# Altium footprint library PinHeader.PcbLib: 118 footprints (part 7 of 8)
Each footprint in its own frame and in the unit in brackets; x right, y up, seen from the top. Pads: shape width x height; smd on the part's side, far side on the other; paste and mask are expansions set on the pad; w line width, h text height; cw(c..) or ccw(c..) is an arc to the next point about the centre after c.
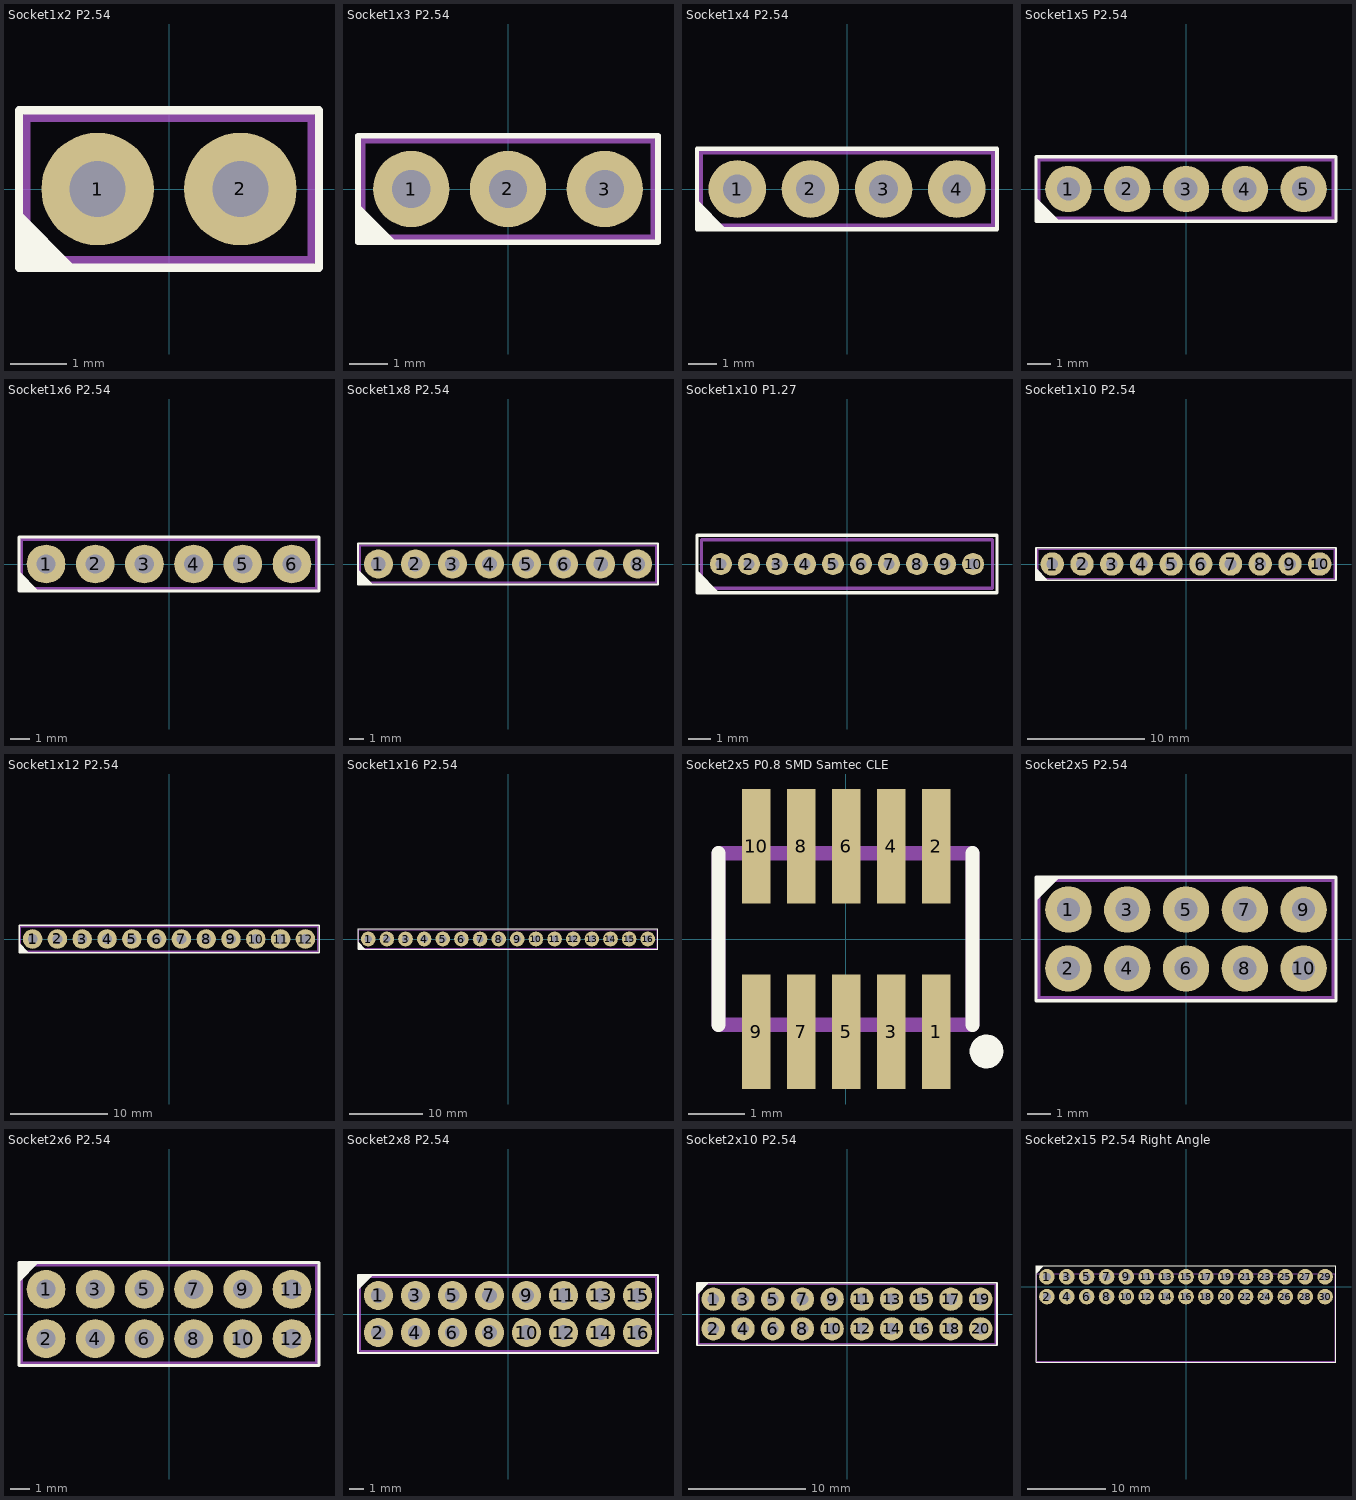
[diagram p6: the footprints below, top view; thin cyan lines are the x and y axes]

## Socket1x2 P2.54 [mm] "Receptacle connector"
height 7
pads (2):
  round 2 hole 1: 1(-1.27,0) 2(1.27,0)
Top Overlay:
  region: -2.667,-1.397 -2.667,-0.381 -1.651,-1.397
  lines w0.15: -2.667,-1.397 -2.667,1.397 2.667,1.397 2.667,-1.397 -2.667,-1.397
Mechanical 13:
  lines w0.15: -2.54,-1.27 -2.54,1.27 2.54,1.27 2.54,-1.27 -2.54,-1.27
3D body: height 0, standoff -2.5, extent 0.97,-0.3 1.57,0.3
3D body: height 0, standoff -2.5, extent -1.57,-0.3 -0.97,0.3
3D body: height 7.01, standoff 0, extent 0.52,-0.75 2.02,0.75
3D body: height 7.01, standoff 0, extent -2.02,-0.75 -0.52,0.75
3D body: height 7, standoff 0, extent -2.54,-1.27 2.54,1.27

## Socket1x3 P2.54 [mm] "Receptacle connector"
height 7
pads (3):
  round 2 hole 1: 1(-2.54,0) 2(0,0) 3(2.54,0)
Top Overlay:
  region: -3.937,-1.397 -3.937,-0.381 -2.921,-1.397
  lines w0.15: -3.937,-1.397 -3.937,1.397 3.937,1.397 3.937,-1.397 -3.937,-1.397
Mechanical 13:
  lines w0.15: -3.81,-1.27 -3.81,1.27 3.81,1.27 3.81,-1.27 -3.81,-1.27
3D body: height 0, standoff -2.5, extent 2.24,-0.3 2.84,0.3
3D body: height 0, standoff -2.5, extent -0.3,-0.3 0.3,0.3
3D body: height 0, standoff -2.5, extent -2.84,-0.3 -2.24,0.3
3D body: height 7.01, standoff 0, extent 1.79,-0.75 3.29,0.75
3D body: height 7.01, standoff 0, extent -0.75,-0.75 0.75,0.75
3D body: height 7.01, standoff 0, extent -3.29,-0.75 -1.79,0.75
3D body: height 7, standoff 0, extent -3.81,-1.27 3.81,1.27

## Socket1x4 P2.54 [mm] "Receptacle connector"
height 7
pads (4):
  round 2 hole 1: 1(-3.81,0) 2(-1.27,0) 3(1.27,0) 4(3.81,0)
Top Overlay:
  region: -5.207,-1.397 -5.207,-0.381 -4.191,-1.397
  lines w0.15: -5.207,-1.397 5.207,-1.397 5.207,1.397 -5.207,1.397 -5.207,-1.397
Mechanical 13:
  lines w0.15: -5.08,-1.27 5.08,-1.27 5.08,1.27 -5.08,1.27 -5.08,-1.27
3D body: height 7, standoff 0, extent -5.08,-1.27 5.08,1.27
3D body: height 7.01, standoff 0, extent -4.56,-0.75 -3.06,0.75
3D body: height 7.01, standoff 0, extent -2.02,-0.75 -0.52,0.75
3D body: height 7.01, standoff 0, extent 0.52,-0.75 2.02,0.75
3D body: height 7.01, standoff 0, extent 3.06,-0.75 4.56,0.75
3D body: height 0, standoff -2.5, extent -4.11,-0.3 -3.51,0.3
3D body: height 0, standoff -2.5, extent -1.57,-0.3 -0.97,0.3
3D body: height 0, standoff -2.5, extent 0.97,-0.3 1.57,0.3
3D body: height 0, standoff -2.5, extent 3.51,-0.3 4.11,0.3

## Socket1x5 P2.54 [mm] "Receptacle connector"
height 7
pads (5):
  round 2 hole 1: 1(-5.08,0) 2(-2.54,0) 3(0,0) 4(2.54,0) 5(5.08,0)
Top Overlay:
  region: -6.477,-1.397 -6.477,-0.381 -5.461,-1.397
  lines w0.15: -6.477,-1.397 -6.477,1.397 6.477,1.397 6.477,-1.397 -6.477,-1.397
Mechanical 13:
  lines w0.15: -6.35,-1.27 -6.35,1.27 6.35,1.27 6.35,-1.27 -6.35,-1.27
3D body: height 0, standoff -2.5, extent 4.78,-0.3 5.38,0.3
3D body: height 0, standoff -2.5, extent 2.24,-0.3 2.84,0.3
3D body: height 0, standoff -2.5, extent -0.3,-0.3 0.3,0.3
3D body: height 0, standoff -2.5, extent -2.84,-0.3 -2.24,0.3
3D body: height 0, standoff -2.5, extent -5.38,-0.3 -4.78,0.3
3D body: height 7.01, standoff 0, extent 4.33,-0.75 5.83,0.75
3D body: height 7.01, standoff 0, extent 1.79,-0.75 3.29,0.75
3D body: height 7.01, standoff 0, extent -0.75,-0.75 0.75,0.75
3D body: height 7.01, standoff 0, extent -3.29,-0.75 -1.79,0.75
3D body: height 7.01, standoff 0, extent -5.83,-0.75 -4.33,0.75
3D body: height 7, standoff 0, extent -6.35,-1.27 6.35,1.27

## Socket1x6 P2.54 [mm] "Receptacle connector"
height 7
pads (6):
  round 2 hole 1: 1(-6.35,0) 2(-3.81,0) 3(-1.27,0) 4(1.27,0) 5(3.81,0) 6(6.35,0)
Top Overlay:
  region: -7.747,-1.397 -7.747,-0.381 -6.731,-1.397
  lines w0.15: -7.747,-1.397 -7.747,1.397 7.747,1.397 7.747,-1.397 -7.747,-1.397
Mechanical 13:
  lines w0.15: -7.62,-1.27 -7.62,1.27 7.62,1.27 7.62,-1.27 -7.62,-1.27
3D body: height 0, standoff -2.5, extent 6.05,-0.3 6.65,0.3
3D body: height 0, standoff -2.5, extent 3.51,-0.3 4.11,0.3
3D body: height 0, standoff -2.5, extent 0.97,-0.3 1.57,0.3
3D body: height 0, standoff -2.5, extent -1.57,-0.3 -0.97,0.3
3D body: height 0, standoff -2.5, extent -4.11,-0.3 -3.51,0.3
3D body: height 0, standoff -2.5, extent -6.65,-0.3 -6.05,0.3
3D body: height 7.01, standoff 0, extent 5.6,-0.75 7.1,0.75
3D body: height 7.01, standoff 0, extent 3.06,-0.75 4.56,0.75
3D body: height 7.01, standoff 0, extent 0.52,-0.75 2.02,0.75
3D body: height 7.01, standoff 0, extent -2.02,-0.75 -0.52,0.75
3D body: height 7.01, standoff 0, extent -4.56,-0.75 -3.06,0.75
3D body: height 7.01, standoff 0, extent -7.1,-0.75 -5.6,0.75
3D body: height 7, standoff 0, extent -7.62,-1.27 7.62,1.27

## Socket1x8 P2.54 [mm] "Receptacle connector"
height 7
pads (8):
  round 2 hole 1: 1(-8.89,0) 2(-6.35,0) 3(-3.81,0) 4(-1.27,0) 5(1.27,0) 6(3.81,0) 7(6.35,0) 8(8.89,0)
Top Overlay:
  region: -10.287,-1.397 -10.287,-0.381 -9.271,-1.397
  lines w0.15: -10.287,-1.397 -10.287,1.397 10.287,1.397 10.287,-1.397 -10.287,-1.397
Mechanical 13:
  lines w0.15: -10.16,-1.27 -10.16,1.27 10.16,1.27 10.16,-1.27 -10.16,-1.27
3D body: height 0, standoff -2.5, extent 8.59,-0.3 9.19,0.3
3D body: height 0, standoff -2.5, extent 6.05,-0.3 6.65,0.3
3D body: height 0, standoff -2.5, extent 3.51,-0.3 4.11,0.3
3D body: height 0, standoff -2.5, extent 0.97,-0.3 1.57,0.3
3D body: height 0, standoff -2.5, extent -1.57,-0.3 -0.97,0.3
3D body: height 0, standoff -2.5, extent -4.11,-0.3 -3.51,0.3
3D body: height 0, standoff -2.5, extent -6.65,-0.3 -6.05,0.3
3D body: height 0, standoff -2.5, extent -9.19,-0.3 -8.59,0.3
3D body: height 7.01, standoff 0, extent 8.14,-0.75 9.64,0.75
3D body: height 7.01, standoff 0, extent 5.6,-0.75 7.1,0.75
3D body: height 7.01, standoff 0, extent 3.06,-0.75 4.56,0.75
3D body: height 7.01, standoff 0, extent 0.52,-0.75 2.02,0.75
3D body: height 7.01, standoff 0, extent -2.02,-0.75 -0.52,0.75
3D body: height 7.01, standoff 0, extent -4.56,-0.75 -3.06,0.75
3D body: height 7.01, standoff 0, extent -7.1,-0.75 -5.6,0.75
3D body: height 7.01, standoff 0, extent -9.64,-0.75 -8.14,0.75
3D body: height 7, standoff 0, extent -10.16,-1.27 10.16,1.27

## Socket1x10 P1.27 [mm] "Receptacle connector"
height 4.1
pads (10):
  round 1 hole 0.5: 1(-5.715,0) 2(-4.445,0) 3(-3.175,0) 4(-1.905,0) 5(-0.635,0) 6(0.635,0) 7(1.905,0) 8(3.175,0) 9(4.445,0) 10(5.715,0)
Top Overlay:
  region: -6.8,-1.3 -6.8,-0.284 -5.784,-1.3
  lines w0.15: -6.8,-1.3 -6.8,1.3 6.8,1.3 6.8,-1.3 -6.8,-1.3
Mechanical 13:
  lines w0.15: -6.6,-1.1 6.6,-1.1 6.6,1.1 -6.6,1.1 -6.6,-1.1
3D body "pcb_connector_851-87-010-10-001101.stp": height 4.1, standoff -2.3, extent -6.555,-1.1 6.555,1.1

## Socket1x10 P2.54 [mm] "Receptacle connector"
height 7
pads (10):
  round 2 hole 1: 1(-11.43,0) 2(-8.89,0) 3(-6.35,0) 4(-3.81,0) 5(-1.27,0) 6(1.27,0) 7(3.81,0) 8(6.35,0) 9(8.89,0) 10(11.43,0)
Top Overlay:
  region: -12.827,-1.397 -12.827,-0.381 -11.811,-1.397
  lines w0.15: -12.827,-1.397 12.827,-1.397 12.827,1.397 -12.827,1.397 -12.827,-1.397
Mechanical 13:
  lines w0.15: -12.7,-1.27 12.7,-1.27 12.7,1.27 -12.7,1.27 -12.7,-1.27
3D body: height 7, standoff 0, extent -12.7,-1.27 12.7,1.27
3D body: height 7.01, standoff 0, extent -12.18,-0.75 -10.68,0.75
3D body: height 7.01, standoff 0, extent -9.64,-0.75 -8.14,0.75
3D body: height 7.01, standoff 0, extent -7.1,-0.75 -5.6,0.75
3D body: height 7.01, standoff 0, extent -4.56,-0.75 -3.06,0.75
3D body: height 7.01, standoff 0, extent -2.02,-0.75 -0.52,0.75
3D body: height 7.01, standoff 0, extent 0.52,-0.75 2.02,0.75
3D body: height 7.01, standoff 0, extent 3.06,-0.75 4.56,0.75
3D body: height 7.01, standoff 0, extent 5.6,-0.75 7.1,0.75
3D body: height 7.01, standoff 0, extent 8.14,-0.75 9.64,0.75
3D body: height 7.01, standoff 0, extent 10.68,-0.75 12.18,0.75
3D body: height 0, standoff -2.5, extent -11.73,-0.3 -11.13,0.3
3D body: height 0, standoff -2.5, extent -9.19,-0.3 -8.59,0.3
3D body: height 0, standoff -2.5, extent -6.65,-0.3 -6.05,0.3
3D body: height 0, standoff -2.5, extent -4.11,-0.3 -3.51,0.3
3D body: height 0, standoff -2.5, extent -1.57,-0.3 -0.97,0.3
3D body: height 0, standoff -2.5, extent 0.97,-0.3 1.57,0.3
3D body: height 0, standoff -2.5, extent 3.51,-0.3 4.11,0.3
3D body: height 0, standoff -2.5, extent 6.05,-0.3 6.65,0.3
3D body: height 0, standoff -2.5, extent 8.59,-0.3 9.19,0.3
3D body: height 0, standoff -2.5, extent 11.13,-0.3 11.73,0.3

## Socket1x12 P2.54 [mm] "Receptacle connector"
height 7
pads (12):
  round 2 hole 1: 1(-13.97,0) 2(-11.43,0) 3(-8.89,0) 4(-6.35,0) 5(-3.81,0) 6(-1.27,0) 7(1.27,0) 8(3.81,0) 9(6.35,0) 10(8.89,0) 11(11.43,0) 12(13.97,0)
Top Overlay:
  region: -15.367,-1.397 -15.367,-0.381 -14.351,-1.397
  lines w0.15: -15.367,-1.397 -15.367,1.397 15.367,1.397 15.367,-1.397 -15.367,-1.397
Mechanical 13:
  lines w0.15: -15.24,-1.27 -15.24,1.27 15.24,1.27 15.24,-1.27 -15.24,-1.27
3D body: height 0, standoff -2.5, extent 8.59,-0.3 9.19,0.3
3D body: height 0, standoff -2.5, extent 6.05,-0.3 6.65,0.3
3D body: height 0, standoff -2.5, extent 3.51,-0.3 4.11,0.3
3D body: height 0, standoff -2.5, extent 0.97,-0.3 1.57,0.3
3D body: height 0, standoff -2.5, extent -1.57,-0.3 -0.97,0.3
3D body: height 0, standoff -2.5, extent -4.11,-0.3 -3.51,0.3
3D body: height 0, standoff -2.5, extent -6.65,-0.3 -6.05,0.3
3D body: height 0, standoff -2.5, extent -9.19,-0.3 -8.59,0.3
3D body: height 0, standoff -2.5, extent -11.73,-0.3 -11.13,0.3
3D body: height 0, standoff -2.5, extent -14.27,-0.3 -13.67,0.3
3D body: height 7.01, standoff 0, extent 8.14,-0.75 9.64,0.75
3D body: height 7.01, standoff 0, extent 5.6,-0.75 7.1,0.75
3D body: height 7.01, standoff 0, extent 3.06,-0.75 4.56,0.75
3D body: height 7.01, standoff 0, extent 0.52,-0.75 2.02,0.75
3D body: height 7.01, standoff 0, extent -2.02,-0.75 -0.52,0.75
3D body: height 7.01, standoff 0, extent -4.56,-0.75 -3.06,0.75
3D body: height 7.01, standoff 0, extent -7.1,-0.75 -5.6,0.75
3D body: height 7.01, standoff 0, extent -9.64,-0.75 -8.14,0.75
3D body: height 7.01, standoff 0, extent -12.18,-0.75 -10.68,0.75
3D body: height 7.01, standoff 0, extent -14.72,-0.75 -13.22,0.75
3D body: height 7, standoff 0, extent -15.24,-1.27 15.24,1.27
3D body: height 7.01, standoff 0, extent 10.68,-0.75 12.18,0.75
3D body: height 0, standoff -2.5, extent 11.13,-0.3 11.73,0.3
3D body: height 7.01, standoff 0, extent 13.22,-0.75 14.72,0.75
3D body: height 0, standoff -2.5, extent 13.67,-0.3 14.27,0.3

## Socket1x16 P2.54 [mm] "Receptacle connector"
height 7
pads (16):
  round 2 hole 1: 1(-19.05,0) 2(-16.51,0) 3(-13.97,0) 4(-11.43,0) 5(-8.89,0) 6(-6.35,0) 7(-3.81,0) 8(-1.27,0) 9(1.27,0) 10(3.81,0) 11(6.35,0) 12(8.89,0) 13(11.43,0) 14(13.97,0) 15(16.51,0) 16(19.05,0)
Top Overlay:
  region: -20.447,-1.397 -20.447,-0.381 -19.431,-1.397
  lines w0.15: -20.447,-1.397 -20.447,1.397 20.447,1.397 20.447,-1.397 -20.447,-1.397
Mechanical 13:
  lines w0.15: -20.32,-1.27 -20.32,1.27 20.32,1.27 20.32,-1.27 -20.32,-1.27
3D body: height 0, standoff -2.5, extent 3.51,-0.3 4.11,0.3
3D body: height 0, standoff -2.5, extent 0.97,-0.3 1.57,0.3
3D body: height 0, standoff -2.5, extent -1.57,-0.3 -0.97,0.3
3D body: height 0, standoff -2.5, extent -4.11,-0.3 -3.51,0.3
3D body: height 0, standoff -2.5, extent -6.65,-0.3 -6.05,0.3
3D body: height 0, standoff -2.5, extent -9.19,-0.3 -8.59,0.3
3D body: height 0, standoff -2.5, extent -11.73,-0.3 -11.13,0.3
3D body: height 0, standoff -2.5, extent -14.27,-0.3 -13.67,0.3
3D body: height 0, standoff -2.5, extent -16.81,-0.3 -16.21,0.3
3D body: height 0, standoff -2.5, extent -19.35,-0.3 -18.75,0.3
3D body: height 7.01, standoff 0, extent 3.06,-0.75 4.56,0.75
3D body: height 7.01, standoff 0, extent 0.52,-0.75 2.02,0.75
3D body: height 7.01, standoff 0, extent -2.02,-0.75 -0.52,0.75
3D body: height 7.01, standoff 0, extent -4.56,-0.75 -3.06,0.75
3D body: height 7.01, standoff 0, extent -7.1,-0.75 -5.6,0.75
3D body: height 7.01, standoff 0, extent -9.64,-0.75 -8.14,0.75
3D body: height 7.01, standoff 0, extent -12.18,-0.75 -10.68,0.75
3D body: height 7.01, standoff 0, extent -14.72,-0.75 -13.22,0.75
3D body: height 7.01, standoff 0, extent -17.26,-0.75 -15.76,0.75
3D body: height 7.01, standoff 0, extent -19.8,-0.75 -18.3,0.75
3D body: height 7, standoff 0, extent -20.32,-1.27 20.32,1.27
3D body: height 7.01, standoff 0, extent 5.6,-0.75 7.1,0.75
3D body: height 0, standoff -2.5, extent 6.05,-0.3 6.65,0.3
3D body: height 7.01, standoff 0, extent 8.14,-0.75 9.64,0.75
3D body: height 0, standoff -2.5, extent 8.59,-0.3 9.19,0.3
3D body: height 7.01, standoff 0, extent 10.68,-0.75 12.18,0.75
3D body: height 0, standoff -2.5, extent 11.13,-0.3 11.73,0.3
3D body: height 7.01, standoff 0, extent 13.22,-0.75 14.72,0.75
3D body: height 0, standoff -2.5, extent 13.67,-0.3 14.27,0.3
3D body: height 7.01, standoff 0, extent 15.76,-0.75 17.26,0.75
3D body: height 0, standoff -2.5, extent 16.21,-0.3 16.81,0.3
3D body: height 7.01, standoff 0, extent 18.3,-0.75 19.8,0.75
3D body: height 0, standoff -2.5, extent 18.75,-0.3 19.35,0.3

## Socket2x5 P0.8 SMD Samtec CLE [mil] "Receptacle connector"
height 129.92
pads (10):
  rect 20x80 smd mask+2: 1(63.34,-65) 2(63.34,65) 3(31.84,-65) 4(31.84,65) 5(0.34,-65) 6(0.34,65) 7(-31.16,-65) 8(-31.16,65) 9(-62.66,-65) 10(-62.66,65)
Top Overlay:
  circle w11.81: c98.43,-78.74 r5.91
  lines w10: -89.09,-60 -89.09,60 ; 88.74,-60 88.74,60
Mechanical 1:
  lines w10: -89.09,-60 -89.09,60 88.74,60 88.74,-60 -89.09,-60
3D body: height 129.92, standoff 7.87, extent -89.09,-60 88.74,60
3D body: height 130.31, standoff 129.92, extent -5.9,17.72 5.91,29.53
3D body: height 130.31, standoff 129.92, extent -5.91,-29.53 5.9,-17.72
3D body: height 11.81, standoff 0, extent -5.9,17.72 5.91,90.55
3D body: height 11.81, standoff 0, extent -5.91,-90.55 5.9,-17.72
3D body: height 11.81, standoff 0, extent -37.4,-90.55 -25.59,-17.72
3D body: height 11.81, standoff 0, extent -37.4,17.72 -25.59,90.55
3D body: height 130.31, standoff 129.92, extent -37.41,-29.53 -25.59,-17.72
3D body: height 130.31, standoff 129.92, extent -37.4,17.72 -25.59,29.53
3D body: height 11.81, standoff 0, extent -68.9,-90.55 -57.09,-17.72
3D body: height 11.81, standoff 0, extent -68.89,17.72 -57.08,90.55
3D body: height 130.31, standoff 129.92, extent -68.9,-29.53 -57.09,-17.72
3D body: height 130.31, standoff 129.92, extent -68.89,17.72 -57.08,29.53
3D body: height 11.81, standoff 0, extent 25.59,-90.55 37.4,-17.72
3D body: height 11.81, standoff 0, extent 25.59,17.72 37.4,90.55
3D body: height 130.31, standoff 129.92, extent 25.59,-29.53 37.4,-17.72
3D body: height 130.31, standoff 129.92, extent 25.59,17.72 37.41,29.53
3D body: height 11.81, standoff 0, extent 57.08,-90.55 68.89,-17.72
3D body: height 11.81, standoff 0, extent 57.09,17.72 68.9,90.55
3D body: height 130.31, standoff 129.92, extent 57.08,-29.53 68.89,-17.72
3D body: height 130.31, standoff 129.92, extent 57.09,17.72 68.9,29.53

## Socket2x5 P2.54 [mm] "Receptacle connector"
height 7
pads (10):
  round 2 hole 1: 1(-5.08,1.27) 2(-5.08,-1.27) 3(-2.54,1.27) 4(-2.54,-1.27) 5(0,1.27) 6(0,-1.27) 7(2.54,1.27) 8(2.54,-1.27) 9(5.08,1.27) 10(5.08,-1.27)
Top Overlay:
  region: -6.477,2.667 -5.461,2.667 -6.477,1.651
  lines w0.15: -6.477,-2.667 -6.477,2.667 6.477,2.667 6.477,-2.667 -6.477,-2.667
Mechanical 13:
  lines w0.15: -6.35,-2.54 6.35,-2.54 6.35,2.54 -6.35,2.54 -6.35,-2.54
3D body: height 7, standoff 0, extent -6.35,-2.54 6.35,2.54
3D body: height 7.01, standoff 0, extent -5.83,0.52 -4.33,2.02
3D body: height 7.01, standoff 0, extent -3.29,0.52 -1.79,2.02
3D body: height 7.01, standoff 0, extent -0.75,0.52 0.75,2.02
3D body: height 7.01, standoff 0, extent 1.79,0.52 3.29,2.02
3D body: height 7.01, standoff 0, extent 4.33,0.52 5.83,2.02
3D body: height 7.01, standoff 0, extent -5.83,-2.02 -4.33,-0.52
3D body: height 7.01, standoff 0, extent -3.29,-2.02 -1.79,-0.52
3D body: height 7.01, standoff 0, extent -0.75,-2.02 0.75,-0.52
3D body: height 7.01, standoff 0, extent 1.79,-2.02 3.29,-0.52
3D body: height 7.01, standoff 0, extent 4.33,-2.02 5.83,-0.52
3D body: height 0, standoff -2.5, extent -5.38,0.97 -4.78,1.57
3D body: height 0, standoff -2.5, extent -2.84,0.97 -2.24,1.57
3D body: height 0, standoff -2.5, extent -0.3,0.97 0.3,1.57
3D body: height 0, standoff -2.5, extent 2.24,0.97 2.84,1.57
3D body: height 0, standoff -2.5, extent 4.78,0.97 5.38,1.57
3D body: height 0, standoff -2.5, extent -5.38,-1.57 -4.78,-0.97
3D body: height 0, standoff -2.5, extent -2.84,-1.57 -2.24,-0.97
3D body: height 0, standoff -2.5, extent -0.3,-1.57 0.3,-0.97
3D body: height 0, standoff -2.5, extent 2.24,-1.57 2.84,-0.97
3D body: height 0, standoff -2.5, extent 4.78,-1.57 5.38,-0.97

## Socket2x6 P2.54 [mm] "Receptacle connector"
height 7
pads (12):
  round 2 hole 1: 1(-6.35,1.27) 2(-6.35,-1.27) 3(-3.81,1.27) 4(-3.81,-1.27) 5(-1.27,1.27) 6(-1.27,-1.27) 7(1.27,1.27) 8(1.27,-1.27) 9(3.81,1.27) 10(3.81,-1.27) 11(6.35,1.27) 12(6.35,-1.27)
Top Overlay:
  region: -7.747,2.667 -6.731,2.667 -7.747,1.651
  lines w0.15: -7.747,-2.667 -7.747,2.667 7.747,2.667 7.747,-2.667 -7.747,-2.667
Mechanical 13:
  lines w0.15: -7.62,-2.54 -7.62,2.54 7.62,2.54 7.62,-2.54 -7.62,-2.54
3D body: height 0, standoff -2.5, extent 6.05,-1.57 6.65,-0.97
3D body: height 0, standoff -2.5, extent 3.51,-1.57 4.11,-0.97
3D body: height 0, standoff -2.5, extent 0.97,-1.57 1.57,-0.97
3D body: height 0, standoff -2.5, extent -1.57,-1.57 -0.97,-0.97
3D body: height 0, standoff -2.5, extent -4.11,-1.57 -3.51,-0.97
3D body: height 0, standoff -2.5, extent -6.65,-1.57 -6.05,-0.97
3D body: height 0, standoff -2.5, extent 6.05,0.97 6.65,1.57
3D body: height 0, standoff -2.5, extent 3.51,0.97 4.11,1.57
3D body: height 0, standoff -2.5, extent 0.97,0.97 1.57,1.57
3D body: height 0, standoff -2.5, extent -1.57,0.97 -0.97,1.57
3D body: height 0, standoff -2.5, extent -4.11,0.97 -3.51,1.57
3D body: height 0, standoff -2.5, extent -6.65,0.97 -6.05,1.57
3D body: height 7.01, standoff 0, extent 5.6,-2.02 7.1,-0.52
3D body: height 7.01, standoff 0, extent 3.06,-2.02 4.56,-0.52
3D body: height 7.01, standoff 0, extent 0.52,-2.02 2.02,-0.52
3D body: height 7.01, standoff 0, extent -2.02,-2.02 -0.52,-0.52
3D body: height 7.01, standoff 0, extent -4.56,-2.02 -3.06,-0.52
3D body: height 7.01, standoff 0, extent -7.1,-2.02 -5.6,-0.52
3D body: height 7.01, standoff 0, extent 5.6,0.52 7.1,2.02
3D body: height 7.01, standoff 0, extent 3.06,0.52 4.56,2.02
3D body: height 7.01, standoff 0, extent 0.52,0.52 2.02,2.02
3D body: height 7.01, standoff 0, extent -2.02,0.52 -0.52,2.02
3D body: height 7.01, standoff 0, extent -4.56,0.52 -3.06,2.02
3D body: height 7.01, standoff 0, extent -7.1,0.52 -5.6,2.02
3D body: height 7, standoff 0, extent -7.62,-2.54 7.62,2.54

## Socket2x8 P2.54 [mm] "Receptacle connector"
height 7
pads (16):
  round 2 hole 1: 1(-8.89,1.27) 2(-8.89,-1.27) 3(-6.35,1.27) 4(-6.35,-1.27) 5(-3.81,1.27) 6(-3.81,-1.27) 7(-1.27,1.27) 8(-1.27,-1.27) 9(1.27,1.27) 10(1.27,-1.27) 11(3.81,1.27) 12(3.81,-1.27) 13(6.35,1.27) 14(6.35,-1.27) 15(8.89,1.27) 16(8.89,-1.27)
Top Overlay:
  region: -10.287,2.667 -9.271,2.667 -10.287,1.651
  lines w0.15: -10.287,-2.667 10.287,-2.667 10.287,2.667 -10.287,2.667 -10.287,-2.667
Mechanical 13:
  lines w0.15: -10.16,-2.54 10.16,-2.54 10.16,2.54 -10.16,2.54 -10.16,-2.54
3D body: height 7, standoff 0, extent -10.16,-2.54 10.16,2.54
3D body: height 7.01, standoff 0, extent -9.64,0.52 -8.14,2.02
3D body: height 7.01, standoff 0, extent -7.1,0.52 -5.6,2.02
3D body: height 7.01, standoff 0, extent -4.56,0.52 -3.06,2.02
3D body: height 7.01, standoff 0, extent -2.02,0.52 -0.52,2.02
3D body: height 7.01, standoff 0, extent 0.52,0.52 2.02,2.02
3D body: height 7.01, standoff 0, extent 3.06,0.52 4.56,2.02
3D body: height 7.01, standoff 0, extent 5.6,0.52 7.1,2.02
3D body: height 7.01, standoff 0, extent 8.14,0.52 9.64,2.02
3D body: height 7.01, standoff 0, extent -9.64,-2.02 -8.14,-0.52
3D body: height 7.01, standoff 0, extent -7.1,-2.02 -5.6,-0.52
3D body: height 7.01, standoff 0, extent -4.56,-2.02 -3.06,-0.52
3D body: height 7.01, standoff 0, extent -2.02,-2.02 -0.52,-0.52
3D body: height 7.01, standoff 0, extent 0.52,-2.02 2.02,-0.52
3D body: height 7.01, standoff 0, extent 3.06,-2.02 4.56,-0.52
3D body: height 7.01, standoff 0, extent 5.6,-2.02 7.1,-0.52
3D body: height 7.01, standoff 0, extent 8.14,-2.02 9.64,-0.52
3D body: height 0, standoff -2.5, extent -9.19,0.97 -8.59,1.57
3D body: height 0, standoff -2.5, extent -6.65,0.97 -6.05,1.57
3D body: height 0, standoff -2.5, extent -4.11,0.97 -3.51,1.57
3D body: height 0, standoff -2.5, extent -1.57,0.97 -0.97,1.57
3D body: height 0, standoff -2.5, extent 0.97,0.97 1.57,1.57
3D body: height 0, standoff -2.5, extent 3.51,0.97 4.11,1.57
3D body: height 0, standoff -2.5, extent 6.05,0.97 6.65,1.57
3D body: height 0, standoff -2.5, extent 8.59,0.97 9.19,1.57
3D body: height 0, standoff -2.5, extent -9.19,-1.57 -8.59,-0.97
3D body: height 0, standoff -2.5, extent -6.65,-1.57 -6.05,-0.97
3D body: height 0, standoff -2.5, extent -4.11,-1.57 -3.51,-0.97
3D body: height 0, standoff -2.5, extent -1.57,-1.57 -0.97,-0.97
3D body: height 0, standoff -2.5, extent 0.97,-1.57 1.57,-0.97
3D body: height 0, standoff -2.5, extent 3.51,-1.57 4.11,-0.97
3D body: height 0, standoff -2.5, extent 6.05,-1.57 6.65,-0.97
3D body: height 0, standoff -2.5, extent 8.59,-1.57 9.19,-0.97

## Socket2x10 P2.54 [mm] "Receptacle connector"
height 7
pads (20):
  round 2 hole 1: 1(-11.43,1.27) 2(-11.43,-1.27) 3(-8.89,1.27) 4(-8.89,-1.27) 5(-6.35,1.27) 6(-6.35,-1.27) 7(-3.81,1.27) 8(-3.81,-1.27) 9(-1.27,1.27) 10(-1.27,-1.27) 11(1.27,1.27) 12(1.27,-1.27) 13(3.81,1.27) 14(3.81,-1.27) 15(6.35,1.27) 16(6.35,-1.27) 17(8.89,1.27) 18(8.89,-1.27) 19(11.43,1.27) 20(11.43,-1.27)
Top Overlay:
  region: -12.827,2.667 -11.811,2.667 -12.827,1.651
  lines w0.15: -12.827,-2.667 12.827,-2.667 12.827,2.667 -12.827,2.667 -12.827,-2.667
Mechanical 13:
  lines w0.15: -12.7,-2.54 12.7,-2.54 12.7,2.54 -12.7,2.54 -12.7,-2.54
3D body: height 7, standoff 0, extent -12.7,-2.54 12.7,2.54
3D body: height 7.01, standoff 0, extent -12.18,0.52 -10.68,2.02
3D body: height 7.01, standoff 0, extent -9.64,0.52 -8.14,2.02
3D body: height 7.01, standoff 0, extent -7.1,0.52 -5.6,2.02
3D body: height 7.01, standoff 0, extent -4.56,0.52 -3.06,2.02
3D body: height 7.01, standoff 0, extent -2.02,0.52 -0.52,2.02
3D body: height 7.01, standoff 0, extent 0.52,0.52 2.02,2.02
3D body: height 7.01, standoff 0, extent 3.06,0.52 4.56,2.02
3D body: height 7.01, standoff 0, extent 5.6,0.52 7.1,2.02
3D body: height 7.01, standoff 0, extent 8.14,0.52 9.64,2.02
3D body: height 7.01, standoff 0, extent 10.68,0.52 12.18,2.02
3D body: height 7.01, standoff 0, extent -12.18,-2.02 -10.68,-0.52
3D body: height 7.01, standoff 0, extent -9.64,-2.02 -8.14,-0.52
3D body: height 7.01, standoff 0, extent -7.1,-2.02 -5.6,-0.52
3D body: height 7.01, standoff 0, extent -4.56,-2.02 -3.06,-0.52
3D body: height 7.01, standoff 0, extent -2.02,-2.02 -0.52,-0.52
3D body: height 7.01, standoff 0, extent 0.52,-2.02 2.02,-0.52
3D body: height 7.01, standoff 0, extent 3.06,-2.02 4.56,-0.52
3D body: height 7.01, standoff 0, extent 5.6,-2.02 7.1,-0.52
3D body: height 7.01, standoff 0, extent 8.14,-2.02 9.64,-0.52
3D body: height 7.01, standoff 0, extent 10.68,-2.02 12.18,-0.52
3D body: height 0, standoff -2.5, extent -11.73,0.97 -11.13,1.57
3D body: height 0, standoff -2.5, extent -9.19,0.97 -8.59,1.57
3D body: height 0, standoff -2.5, extent -6.65,0.97 -6.05,1.57
3D body: height 0, standoff -2.5, extent -4.11,0.97 -3.51,1.57
3D body: height 0, standoff -2.5, extent -1.57,0.97 -0.97,1.57
3D body: height 0, standoff -2.5, extent 0.97,0.97 1.57,1.57
3D body: height 0, standoff -2.5, extent 3.51,0.97 4.11,1.57
3D body: height 0, standoff -2.5, extent 6.05,0.97 6.65,1.57
3D body: height 0, standoff -2.5, extent 8.59,0.97 9.19,1.57
3D body: height 0, standoff -2.5, extent 11.13,0.97 11.73,1.57
3D body: height 0, standoff -2.5, extent -11.73,-1.57 -11.13,-0.97
3D body: height 0, standoff -2.5, extent -9.19,-1.57 -8.59,-0.97
3D body: height 0, standoff -2.5, extent -6.65,-1.57 -6.05,-0.97
3D body: height 0, standoff -2.5, extent -4.11,-1.57 -3.51,-0.97
3D body: height 0, standoff -2.5, extent -1.57,-1.57 -0.97,-0.97
3D body: height 0, standoff -2.5, extent 0.97,-1.57 1.57,-0.97
3D body: height 0, standoff -2.5, extent 3.51,-1.57 4.11,-0.97
3D body: height 0, standoff -2.5, extent 6.05,-1.57 6.65,-0.97
3D body: height 0, standoff -2.5, extent 8.59,-1.57 9.19,-0.97
3D body: height 0, standoff -2.5, extent 11.13,-1.57 11.73,-0.97

## Socket2x15 P2.54 Right Angle [mm] "Receptacle connector"
height 7
pads (30):
  round 2 hole 1: 1(-17.78,1.27) 2(-17.78,-1.27) 3(-15.24,1.27) 4(-15.24,-1.27) 5(-12.7,1.27) 6(-12.7,-1.27) 7(-10.16,1.27) 8(-10.16,-1.27) 9(-7.62,1.27) 10(-7.62,-1.27) 11(-5.08,1.27) 12(-5.08,-1.27) 13(-2.54,1.27) 14(-2.54,-1.27) 15(0,1.27) 16(0,-1.27) 17(2.54,1.27) 18(2.54,-1.27) 19(5.08,1.27) 20(5.08,-1.27) 21(7.62,1.27) 22(7.62,-1.27) 23(10.16,1.27) 24(10.16,-1.27) 25(12.7,1.27) 26(12.7,-1.27) 27(15.24,1.27) 28(15.24,-1.27) 29(17.78,1.27) 30(17.78,-1.27)
Top Overlay:
  region: -19.177,2.667 -18.161,2.667 -19.177,1.651
  lines w0.15: -19.177,-9.652 19.177,-9.652 19.177,2.667 -19.177,2.667 -19.177,-9.652
Mechanical 13:
  lines w0.15: -19.05,-9.525 -19.05,1.651 19.05,1.651 19.05,-9.525 -19.05,-9.525
3D body "pcb_connector_803-87-020-20-001101.stp": height 1.64, standoff -6.64, extent -19.05,-9.571 6.35,1.69
3D body "pcb_connector_803-87-010-20-001101.stp": height 1.64, standoff -6.64, extent 6.35,-9.571 19.05,1.69